# Altium footprint library BQ296100DSGR.PcbLib: 2 footprints
Each footprint in its own frame and in the unit in brackets; x right, y up, seen from the top. Pads: shape width x height; smd on the part's side, far side on the other; paste and mask are expansions set on the pad; w line width, h text height; cw(c..) or ccw(c..) is an arc to the next point about the centre after c.
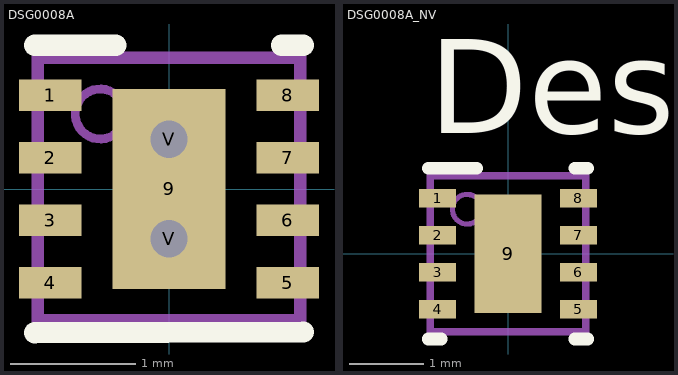
[diagram p0: the footprints below, top view; thin cyan lines are the x and y axes]

## DSG0008A [mm]
pads (11):
  rect 0.5x0.25 smd paste+0 mask+0.051: 1(-0.95,0.75) 2(-0.95,0.25) 3(-0.95,-0.25) 4(-0.95,-0.75) 5(0.95,-0.75) 6(0.95,-0.25) 7(0.95,0.25) 8(0.95,0.75)
  rect 0.9x1.6 smd paste-0.45 mask+0.051: 9(0,0)
  round 0.6 hole 0.3 paste-2539.97 mask+0.076: V(0,-0.4) V(0,0.4)
Top Overlay:
  lines w0.17: -1.075,-1.15 1.075,-1.143 ; -1.075,1.15 -0.425,1.15 ; 0.9,1.15 1.075,1.15
Top Paste:
  region: -0.427,0.733 -0.427,-0.733 0.427,-0.733 0.427,0.733
Mechanical 13:
  circle w0.07: c-0.55,0.6 r0.2
  lines w0.1: -1.05,-1.05 -1.05,1.05 1.05,1.05 1.05,-1.05 -1.05,-1.05
3D body "DSG0008A.stp": height 0.77, standoff 0, extent -1,-1 1,1

## DSG0008A_NV [mm]
pads (9):
  rect 0.5x0.25 smd paste+0 mask+0.051: 1(-0.95,0.75) 2(-0.95,0.25) 3(-0.95,-0.25) 4(-0.95,-0.75) 5(0.95,-0.75) 6(0.95,-0.25) 7(0.95,0.25) 8(0.95,0.75)
  rect 0.9x1.6 smd paste-0.45 mask+0.051: 9(0,0)
Top Overlay:
  lines w0.17: -1.075,-1.15 -0.9,-1.15 ; -1.075,1.15 -0.425,1.15 ; 0.9,-1.15 1.075,-1.15 ; 0.9,1.15 1.075,1.15
  text "Designator9" at -1.067,1.626 h1.27
  text ".Designator" at -3.492,-0.635 h1.27
Top Paste:
  region: -0.427,0.733 -0.427,-0.733 0.427,-0.733 0.427,0.733
Mechanical 13:
  circle w0.07: c-0.55,0.6 r0.2
  lines w0.1: -1.05,-1.05 -1.05,1.05 1.05,1.05 1.05,-1.05 -1.05,-1.05
  text ".Designator" at -3.492,-0.635 h1.27